# Altium schematic symbol library osc_xtal_4p_0.Schlib: 1 symbol
Pins are listed as number, name and electrical type; pins without a type are passive.

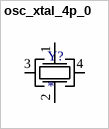
[diagram p0: symbol osc_xtal_4p_0]

## osc_xtal_4p_0
designator Y?
Crystal Oscilaltor, 4 pin
pins: 1, 2, 3 GND, 4 GND